# EAGLE library part UM6507 (library 6502_lib)
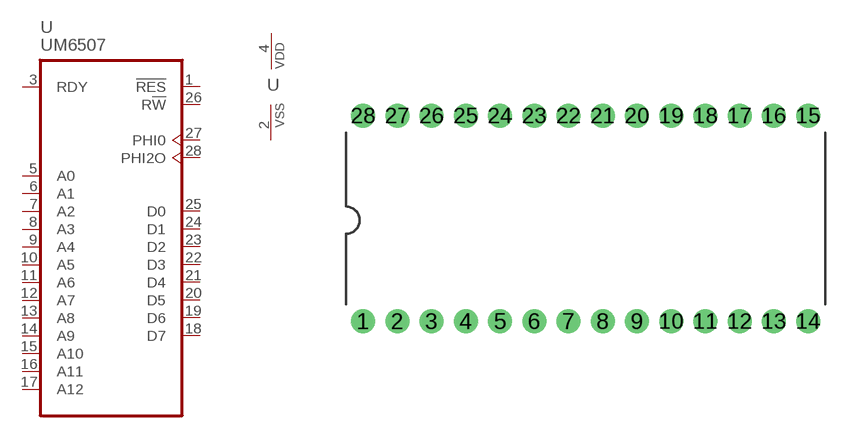
[diagram p13: symbol with the pads of DIL28-6; footprint DIL28-6]

Designator prefix U; gates G$1=UM6507 G$2=PWRN

## UM6507  [DIL28-6]
1  G$1:!RES  in
2  G$2:VSS  pwr
3  G$1:RDY  in
4  G$2:VDD  pwr
5  G$1:A0  out
6  G$1:A1  out
7  G$1:A2  out
8  G$1:A3  out
9  G$1:A4  out
10  G$1:A5  out
11  G$1:A6  out
12  G$1:A7  out
13  G$1:A8  out
14  G$1:A9  out
15  G$1:A10  out
16  G$1:A11  out
17  G$1:A12  out
18  G$1:D7
19  G$1:D6
20  G$1:D5
21  G$1:D4
22  G$1:D3
23  G$1:D2
24  G$1:D1
25  G$1:D0
26  G$1:R!W  out
27  G$1:PHI0  in
28  G$1:PHI2O  out

## Footprint DIL28-6 (pad centres in mm)
Dual In Line package type P
drill 1.016 pad 1.778: 1 -16.51,-7.62; 2 -13.97,-7.62; 3 -11.43,-7.62; 4 -8.89,-7.62; 5 -6.35,-7.62; 6 -3.81,-7.62; 7 -1.27,-7.62; 8 1.27,-7.62; 9 3.81,-7.62; 10 6.35,-7.62; 11 8.89,-7.62; 12 11.43,-7.62; 13 13.97,-7.62; 14 16.51,-7.62; 15 16.51,7.62; 16 13.97,7.62; 17 11.43,7.62; 18 8.89,7.62; 19 6.35,7.62; 20 3.81,7.62; 21 1.27,7.62; 22 -1.27,7.62; 23 -3.81,7.62; 24 -6.35,7.62; 25 -8.89,7.62; 26 -11.43,7.62; 27 -13.97,7.62; 28 -16.51,7.62